# Altium schematic symbol library 10nF 0603 CAP.SchLib: 1 symbol
Pins are listed as number, name and electrical type; pins without a type are passive.

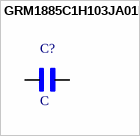
[diagram p0: symbol GRM1885C1H103JA01D]

## GRM1885C1H103JA01D
designator C?, comment C
Multilayer Ceramic Capacitor, GRM Series, 0.01 F, 5%, C0G / NP0, 50 V, 0603 [1608 Metric]; Manufacturer Part Number: GRM1885C1H103JA01D; MF: Murata; Value: 10nF; Package: 0603 Murata; Digi-Key_Purchase_URL: https://www.digikey.ca/product-detail/en/murata-electronics-north-america/GRM1885C1H103JA01D/490-9666-1-ND/4934772?utm_source=snapeda&utm_medium=aggregator&utm_campaign=symbol; Digi-Key_Part_Number: 490-9666-1-ND; SnapEDA_Link: https://www.snapeda.com/parts/GRM1885C1H103JA01D/Murata%20Electronics%20North%20America/view-part/?ref=snap
footprint CAPC1608X9N
footprint CAPC1608X9N
footprint CAPC1608X9N
pins: 1, 2